# Altium schematic symbol library 3D_Scanner.SchLib: 16 symbols
Pins are listed as number, name and electrical type; pins without a type are passive.

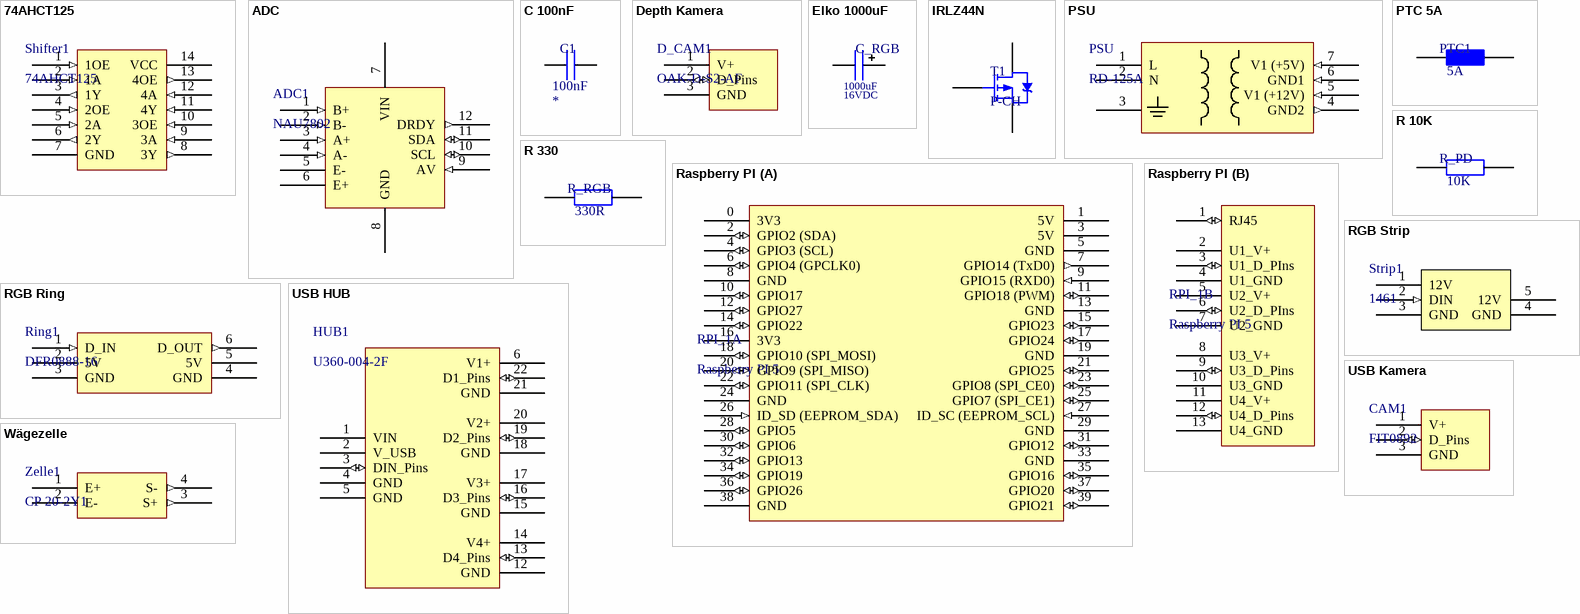
[diagram p0: symbols 74AHCT125 to Wägezelle]

## 74AHCT125
designator Shifter1
74AHCT125 - Quad Level-Shifter (3V to 5V) - 74AHCT125
pins: 1 1OE (in), 2 1A (in), 3 1Y (out), 4 2OE (in), 5 2A (in), 6 2Y (out), 7 GND (power), 8 3Y (out), 9 3A (in), 10 3OE (in), 11 4Y (in), 12 4A (in), 13 4OE (out), 14 VCC (power)

## ADC
designator ADC1, comment NAU7802
ADAFRUIT NAU7802 24-BIT ADC - ST
pins: 1 B+ (in), 2 B- (in), 3 A+ (in), 4 A- (in), 5 E- (power), 6 E+ (power), 7 VIN (power), 8 GND (power), 9 AV (in), 10 SCL (io), 11 SDA (io), 12 DRDY (out)

## C 100nF
designator C1, comment 100nF
Spannung: *; Ladung: 100nF
pins: 0, 1

## Depth Kamera
designator D_CAM1, comment OAK-D-S2-AF
Cameras & Camera Modules Robotic Perception Camera Series 2 with Auto Fcous, Stereo Depth, Object Tracking, Computer Vision, 4 TOPS of Processing Power for AI
pins: 1 V+ (power), 2 D_Pins (io), 3 GND (power)

## Elko 1000uF
designator C_RGB, comment Spannung: 16VDC  (hidden comment: 1000uF)
Ladung: 1000uF
pins: 0, 1

## IRLZ44N
designator T1, comment P-CH
pins: 1 G, 2 S, 3 D

## PSU
designator PSU, comment RD-125A
MEAN WELL Schaltnetzteil, 5 V dc, 12 V dc / 7.7A 2-Kanal 130.9W 176 → 264 V ac, 248 → 373 V dc, 88
pins: 1 L (power), 2 N (power), 3 (power), 4 GND2 (out), 5 V1 (+12V) (in), 6 GND1 (in), 7 V1 (+5V) (in)

## PTC 5A
designator PTC1, comment 5A
Current: 5A
pins: 0, 1

## R 10K
designator R_PD, comment 10K
Widerstand: 10K
pins: 0, 1

## R 330
designator R_RGB, comment 330R
Widerstand: 330R
pins: 0, 1

## Raspberry PI
designator RPI_1, comment Raspberry PI 5
part A pins: 0 3V3 (power), 1 5V (power), 2 GPIO2 (SDA) (io), 3 5V (power), 4 GPIO3 (SCL) (io), 5 GND (power), 6 GPIO4 (GPCLK0) (io), 7 GPIO14 (TxD0) (out), 8 GND (power), 9 GPIO15 (RXD0) (in), 10 GPIO17 (io), 11 GPIO18 (PWM) (io), 12 GPIO27 (io), 13 GND (power), 14 GPIO22 (io), 15 GPIO23 (io), 16 3V3 (power), 17 GPIO24 (io), 18 GPIO10 (SPI_MOSI) (io), 19 GND (power), 20 GPIO9 (SPI_MISO) (io), 21 GPIO25 (io), 22 GPIO11 (SPI_CLK) (io), 23 GPIO8 (SPI_CE0) (io), 24 GND (power), 25 GPIO7 (SPI_CE1) (io), 26 ID_SD (EEPROM_SDA) (in), 27 ID_SC (EEPROM_SCL) (in), 28 GPIO5 (io), 29 GND (power), 30 GPIO6 (io), 31 GPIO12 (io), 32 GPIO13 (io), 33 GND (power), 34 GPIO19 (io), 35 GPIO16 (io), 36 GPIO26 (io), 37 GPIO20 (io), 38 GND (power), 39 GPIO21 (io)
part B pins: 1 RJ45 (io), 2 U1_V+ (power), 3 U1_D_PIns (io), 4 U1_GND (power), 5 U2_V+ (power), 6 U2_D_PIns (io), 7 U2_GND (oe), 8 U3_V+ (power), 9 U3_D_Pins (io), 10 U3_GND (power), 11 U4_V+ (power), 12 U4_D_Pins (io), 13 U4_GND (power)

## RGB Ring
designator Ring1, comment DFR0888-16
DFRobot, DFR0888-16. / WS2812-16 RGB LED RING LAMP
pins: 1 D_IN (in), 2 5V (power), 3 GND (power), 4 GND (power), 5 5V (power), 6 D_OUT (out)

## RGB Strip
designator Strip1, comment 1461
ADDRESS LED STRIP SERIAL RGB 4M, Adafruit, 1461
pins: 1 12V (power), 2 DIN (in), 3 GND (power), 4 GND (power), 5 12V (power)

## USB HUB
designator HUB1, comment U360-004-2F
Interface Modules 4PT USB3.0 SSSPD HUB/CHARGER
pins: 1 VIN (power), 2 V_USB (power), 3 DIN_Pins (io), 4 GND (power), 5 GND (power), 6 V1+ (power), 12 GND (power), 13 D4_Pins (io), 14 V4+ (power), 15 GND (power), 16 D3_Pins (io), 17 V3+ (power), 18 GND (power), 19 D2_Pins (io), 20 V2+ (power), 21 GND (power), 22 D1_Pins (io)

## USB Kamera
designator CAM1, comment FIT0892
Cameras & Camera Modules Megapixel 720p USB Wide-angle Camera for Raspberry Pi and NVIDIA Jetson Nano
pins: 1 V+ (power), 2 D_Pins (io), 3 GND (power)

## Wägezelle
designator Zelle1, comment CP 20-2Y1
Kern CP 20-2Y1 Wägezelle
pins: 1 E+ (power), 2 E- (power), 3 S+ (out), 4 S- (out)